# Altium schematic symbol library Resistor_Pot_MCP4151-502.Schlib: 1 symbol
Pins are listed as number, name and electrical type; pins without a type are passive.

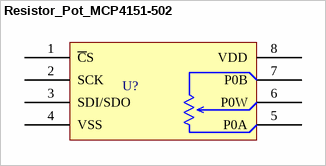
[diagram p0: symbol Resistor_Pot_MCP4151-502]

## Resistor_Pot_MCP4151-502
designator U?
footprint DIP8-tiny
pins: 1 ~{C}S, 2 SCK, 3 SDI/SDO, 4 VSS, 5 P0A, 6 P0W, 7 P0B, 8 VDD (power)